# Altium schematic symbol library ADSP-BF523BBCZ-5A.Schlib: 1 symbol
Pins are listed as number, name and electrical type; pins without a type are passive.

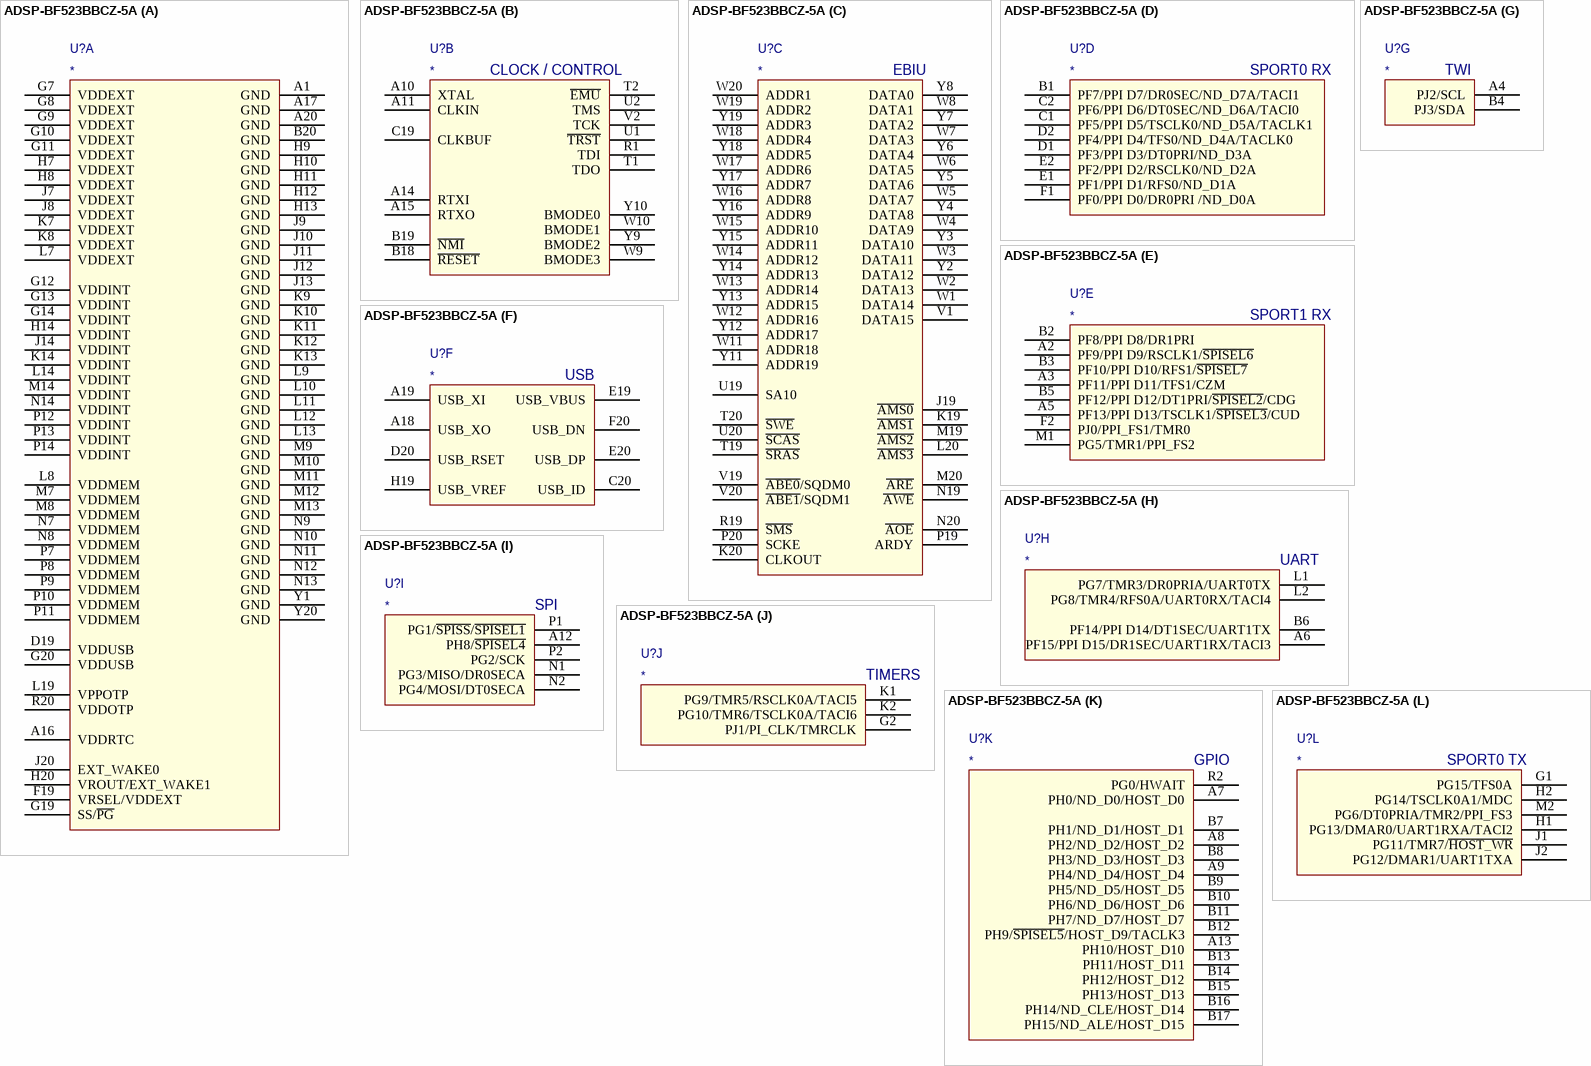
[diagram p0: symbol ADSP-BF523BBCZ-5A]

## ADSP-BF523BBCZ-5A
designator U?
533MHZ DSP
signal-integrity model Model Name (Model Description)
part A pins: A1 GND, A16 VDDRTC, A17 GND, A20 GND, B20 GND, D19 VDDUSB, F19 VRSEL/VDDEXT, G7 VDDEXT, G8 VDDEXT, G9 VDDEXT, G10 VDDEXT, G11 VDDEXT, G12 VDDINT, G13 VDDINT, G14 VDDINT, G19 SS/~{PG}, G20 VDDUSB, H7 VDDEXT, H8 VDDEXT, H9 GND, H10 GND, H11 GND, H12 GND, H13 GND, H14 VDDINT, H20 VROUT/EXT_WAKE1, J7 VDDEXT, J8 VDDEXT, J9 GND, J10 GND, J11 GND, J12 GND, J13 GND, J14 VDDINT, J20 EXT_WAKE0, K7 VDDEXT, K8 VDDEXT, K9 GND, K10 GND, K11 GND, K12 GND, K13 GND, K14 VDDINT, L7 VDDEXT, L8 VDDMEM, L9 GND, L10 GND, L11 GND, L12 GND, L13 GND, L14 VDDINT, L19 VPPOTP, M7 VDDMEM, M8 VDDMEM, M9 GND, M10 GND, M11 GND, M12 GND, M13 GND, M14 VDDINT, N7 VDDMEM, N8 VDDMEM, N9 GND, N10 GND, N11 GND, N12 GND, N13 GND, N14 VDDINT, P7 VDDMEM, P8 VDDMEM, P9 VDDMEM, P10 VDDMEM, P11 VDDMEM, P12 VDDINT, P13 VDDINT, P14 VDDINT, R20 VDDOTP, Y1 GND, Y20 GND
part B pins: A10 XTAL, A11 CLKIN, A14 RTXI, A15 RTXO, B18 ~{RESET}, B19 ~{NMI}, C19 CLKBUF, R1 TDI, T1 TDO, T2 ~{EMU}, U1 ~{TRST}, U2 TMS, V2 TCK, W9 BMODE3, W10 BMODE1, Y9 BMODE2, Y10 BMODE0
part C pins: J19 ~{AMS0}, K19 ~{AMS1}, K20 CLKOUT, L20 ~{AMS3}, M19 ~{AMS2}, M20 ~{ARE}, N19 ~{AWE}, N20 ~{AOE}, P19 ARDY, P20 SCKE, R19 ~{SMS}, T19 ~{SRAS}, T20 ~{SWE}, U19 SA10, U20 ~{SCAS}, V1 DATA15, V19 ~{ABE0}/SQDM0, V20 ~{ABE1}/SQDM1, W1 DATA14, W2 DATA13, W3 DATA11, W4 DATA9, W5 DATA7, W6 DATA5, W7 DATA3, W8 DATA1, W11 ADDR18, W12 ADDR16, W13 ADDR14, W14 ADDR12, W15 ADDR10, W16 ADDR8, W17 ADDR6, W18 ADDR4, W19 ADDR2, W20 ADDR1, Y2 DATA12, Y3 DATA10, Y4 DATA8, Y5 DATA6, Y6 DATA4, Y7 DATA2, Y8 DATA0, Y11 ADDR19, Y12 ADDR17, Y13 ADDR15, Y14 ADDR13, Y15 ADDR11, Y16 ADDR9, Y17 ADDR7, Y18 ADDR5, Y19 ADDR3
part D pins: B1 PF7/PPI D7/DR0SEC/ND_D7A/TACI1, C1 PF5/PPI D5/TSCLK0/ND_D5A/TACLK1, C2 PF6/PPI D6/DT0SEC/ND_D6A/TACI0, D1 PF3/PPI D3/DT0PRI/ND_D3A, D2 PF4/PPI D4/TFS0/ND_D4A/TACLK0, E1 PF1/PPI D1/RFS0/ND_D1A, E2 PF2/PPI D2/RSCLK0/ND_D2A, F1 PF0/PPI D0/DR0PRI /ND_D0A
part E pins: A2 PF9/PPI D9/RSCLK1/~{SPISEL6}, A3 PF11/PPI D11/TFS1/CZM, A5 PF13/PPI D13/TSCLK1/~{SPISEL3}/CUD, B2 PF8/PPI D8/DR1PRI, B3 PF10/PPI D10/RFS1/~{SPISEL7}, B5 PF12/PPI D12/DT1PRI/~{SPISEL2}/CDG, F2 PJ0/PPI_FS1/TMR0, M1 PG5/TMR1/PPI_FS2
part F pins: A18 USB_XO, A19 USB_XI, C20 USB_ID, D20 USB_RSET, E19 USB_VBUS, E20 USB_DP, F20 USB_DN, H19 USB_VREF
part G pins: A4 PJ2/SCL, B4 PJ3/SDA
part H pins: A6 PF15/PPI D15/DR1SEC/UART1RX/TACI3, B6 PF14/PPI D14/DT1SEC/UART1TX, L1 PG7/TMR3/DR0PRIA/UART0TX, L2 PG8/TMR4/RFS0A/UART0RX/TACI4
part I pins: A12 PH8/~{SPISEL4}, N1 PG3/MISO/DR0SECA, N2 PG4/MOSI/DT0SECA, P1 PG1/~{SPISS}/~{SPISEL1}, P2 PG2/SCK
part J pins: G2 PJ1/PI_CLK/TMRCLK, K1 PG9/TMR5/RSCLK0A/TACI5, K2 PG10/TMR6/TSCLK0A/TACI6
part K pins: A7 PH0/ND_D0/HOST_D0, A8 PH2/ND_D2/HOST_D2, A9 PH4/ND_D4/HOST_D4, A13 PH10/HOST_D10, B7 PH1/ND_D1/HOST_D1, B8 PH3/ND_D3/HOST_D3, B9 PH5/ND_D5/HOST_D5, B10 PH6/ND_D6/HOST_D6, B11 PH7/ND_D7/HOST_D7, B12 PH9/~{SPISEL5}/HOST_D9/TACLK3, B13 PH11/HOST_D11, B14 PH12/HOST_D12, B15 PH13/HOST_D13, B16 PH14/ND_CLE/HOST_D14, B17 PH15/ND_ALE/HOST_D15, R2 PG0/HWAIT
part L pins: G1 PG15/TFS0A, H1 PG13/DMAR0/UART1RXA/TACI2, H2 PG14/TSCLK0A1/MDC, J1 PG11/TMR7/~{HOST_WR}, J2 PG12/DMAR1/UART1TXA, M2 PG6/DT0PRIA/TMR2/PPI_FS3
part B text: CLOCK / CONTROL
part C text: EBIU
part D text: SPORT0 RX
part E text: SPORT1 RX
part F text: USB
part G text: TWI
part H text: UART
part I text: SPI
part J text: TIMERS
part K text: GPIO
part L text: SPORT0 TX